# Altium footprint library RCID.PcbLib: 104 footprints (part 7 of 7)
Each footprint in its own frame and in the unit in brackets; x right, y up, seen from the top. Pads: shape width x height; smd on the part's side, far side on the other; paste and mask are expansions set on the pad; w line width, h text height; cw(c..) or ccw(c..) is an arc to the next point about the centre after c.
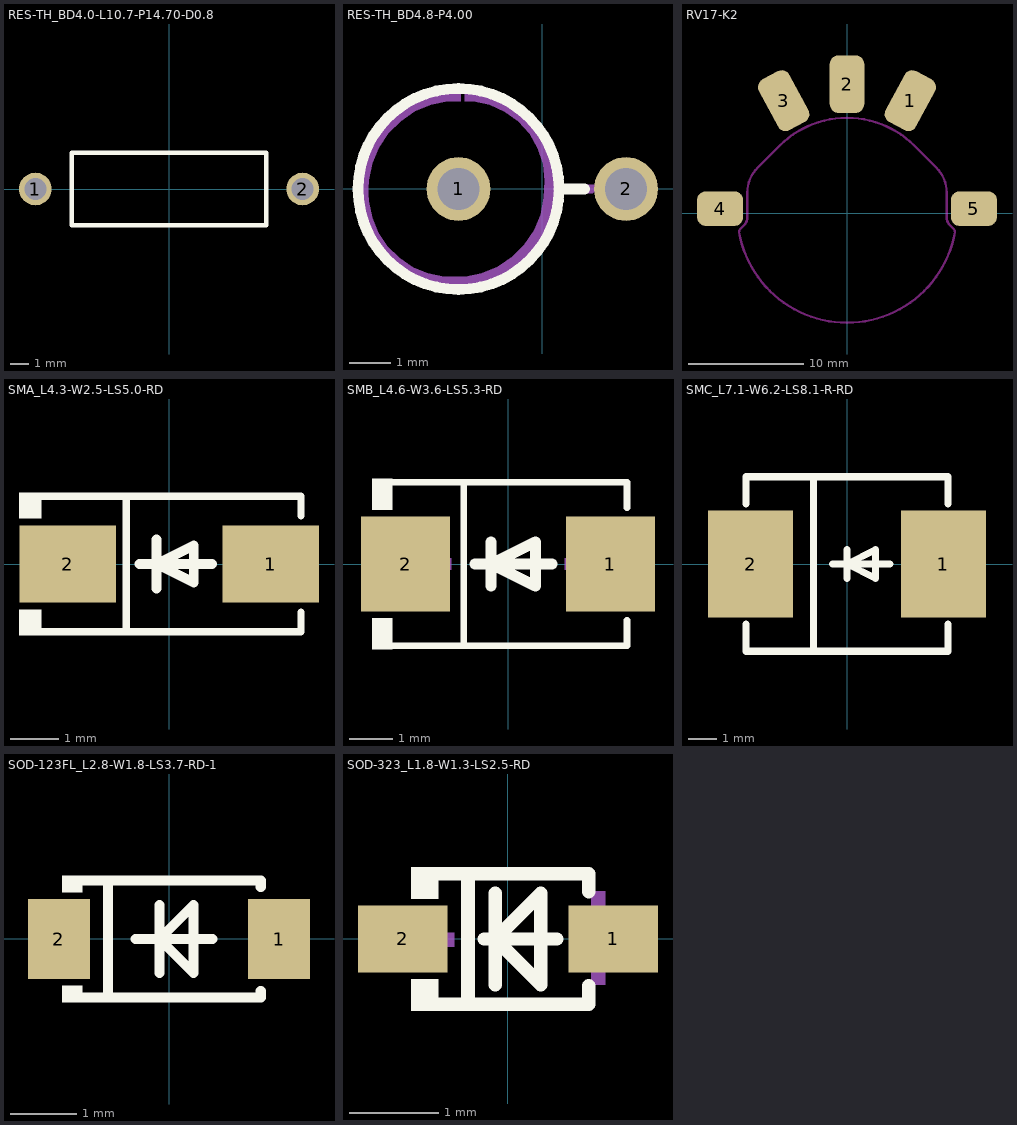
[diagram p6: the footprints below, top view; thin cyan lines are the x and y axes]

## RES-TH_BD4.0-L10.7-P14.70-D0.8 [mm]
pads (2):
  round 1.8 hole 1.2 paste-2539.97 mask+0.051: 1(-7.35,0) 2(7.35,0)
Top Overlay:
  lines w0.254: -5.35,-2 5.35,-2 5.35,2 -5.35,2 -5.35,-2

## RES-TH_BD4.8-P4.00 [mm]
pads (2):
  round 1.524 hole 1 paste-2539.97 mask+0.05: 1(-2,0) 2(2,0)
Top Overlay:
  circle w0.254: c-2,0 r2.4
  lines w0.254: 0.4,0 1.007,0
Mechanical 15:
  region: 0.35,0 0.35,-0.236 0.258,-0.7 0.077,-1.137 -0.186,-1.53 -0.52,-1.864 -0.913,-2.127 -1.35,-2.308 -1.814,-2.4 -2.05,-2.4 -2.277,-2.4 -2.721,-2.312 -3.139,-2.138 -3.516,-1.886 -3.837,-1.566 -4.088,-1.189 -4.262,-0.771 -4.35,-0.327 -4.35,-0.1 -4.35,0 -4.35,0.236 -4.258,0.7 -4.077,1.137 -3.814,1.53 -3.48,1.864 -3.087,2.127 -2.65,2.308 -2.186,2.4 -1.95,2.4 -1.95,2.1 -2.05,2.1 -2.256,2.09 -2.66,2.01 -3.04,1.852 -3.382,1.623 -3.673,1.332 -3.902,0.99 -4.06,0.61 -4.14,0.206 -4.15,0 -4.15,-0.1 -4.14,-0.296 -4.064,-0.681 -3.914,-1.043 -3.696,-1.369 -3.419,-1.646 -3.093,-1.864 -2.731,-2.014 -2.346,-2.09 -2.15,-2.1 -2.05,-2.1 -1.844,-2.09 -1.44,-2.01 -1.06,-1.852 -0.718,-1.623 -0.427,-1.332 -0.198,-0.99 -0.04,-0.61 0.04,-0.206 0.05,0 0.061,0.199 0.019,0.596 -0.105,0.975 -0.305,1.32 -0.572,1.616 -0.895,1.849 -1.26,2.01 -1.651,2.091 -1.85,2.1 -1.85,2.4 -1.633,2.4 -1.208,2.315 -0.808,2.15 -0.448,1.909 -0.141,1.602 0.1,1.242 0.265,0.842 0.35,0.417 0.35,0.2
  region: 1.5,0.1 0.5,0.1 0.5,-0.1 1.2,-0.1

## RV17-K2 [mm]
pads (5):
  rrect50% 5x3 smd rot 62 paste+0 mask+0.051: 1(5.484,9.738)
  rrect50% 3x5 smd paste+0 mask+0.051: 2(0,11.176)
  rrect50% 5x3 smd rot 118 paste+0 mask+0.051: 3(-5.484,9.738)
  rrect50% 4x3 smd paste+0 mask+0.051: 4(-11,0.381) 5(11,0.381)
Keep-Out Layer:
  lines w0.2: -9.356,-1.65 cw(c-8.95,-1.65) -9.237,-1.363 -8.905,-1.031 ccw(c-9.556,-0.381) -8.636,-0.381 -8.636,1.778 cw(c-5.57,1.778) -7.738,3.946 -5.851,5.833 cw(c0,-0.018) 5.851,5.833 7.738,3.946 cw(c5.57,1.778) 8.636,1.778 8.636,-0.381 ccw(c9.556,-0.381) 8.905,-1.031 9.237,-1.363 cw(c8.95,-1.65) 9.356,-1.65 cw(c0,0) -9.356,-1.65

## SMA_L4.3-W2.5-LS5.0-RD [mm]
pads (2):
  rect 2x1.593 smd paste+0 mask+0.051: 1(2.1,0) 2(-2.1,0)
Top Overlay:
  region: -2.65,-1.477 -2.65,-0.949 -3.107,-0.949 -3.107,-1.477
  region: -2.65,1.477 -2.65,0.949 -3.107,0.949 -3.107,1.477
  lines w0.152: -2.726,-1.401 2.726,-1.401 2.726,-1 ; -2.726,1.401 2.726,1.401 2.726,1 ; -0.886,-1.401 -0.886,1.401
  lines w0.203: -0.613,0 0.889,0 ; -0.26,0.508 -0.26,-0.508 -0.26,0 ; -0.26,0 0.508,0.384 0.508,-0.384 -0.26,0
Mechanical 15:
  region: 2.153,-0.663 2.153,0.663 1.954,0.663 1.954,-0.663
  region: 2.451,-0.099 2.451,0.099 1.656,0.099 1.656,-0.099
  region: -2.451,-0.099 -2.451,0.099 -1.656,0.099 -1.656,-0.099

## SMB_L4.6-W3.6-LS5.3-RD [mm]
pads (2):
  rect 2.047x2.192 smd paste+0 mask+0.051: 1(2.361,0) 2(-2.361,0)
Top Overlay:
  region: -2.668,-1.962 -2.668,-1.249 -3.125,-1.249 -3.125,-1.962
  region: -2.668,1.962 -2.668,1.249 -3.125,1.249 -3.125,1.962
  lines w0.152: -2.744,-1.886 2.744,-1.886 2.744,-1.299 ; -2.744,1.886 2.744,1.886 2.744,1.299 ; -1.016,-1.886 -1.016,1.886
  lines w0.254: -0.762,0 1.016,0 ; -0.387,0.508 -0.387,-0.508 -0.387,0 ; -0.387,0 0.629,-0.508 0.629,0.508 -0.387,0
Mechanical 15:
  region: 1.989,-0.905 1.989,0.905 1.717,0.905 1.717,-0.905
  region: 2.396,-0.136 2.396,0.136 1.31,0.136 1.31,-0.136
  region: -2.396,-0.136 -2.396,0.136 -1.31,0.136 -1.31,-0.136

## SMC_L7.1-W6.2-LS8.1-R-RD [mm]
pads (2):
  rect 3.03x3.82 smd paste+0 mask+0.051: 1(3.435,0) 2(-3.435,0)
Top Overlay:
  lines w0.254: -3.6,-2.141 -3.6,-3.11 3.6,-3.11 3.6,-2.141 ; -3.6,2.141 -3.6,3.11 3.6,3.11 3.6,2.141 ; -1.192,-3.11 -1.192,3.11 ; -0.508,0 1.524,0 ; 0,0.508 0,-0.508 0,0 ; 0,0 1.016,0.508 1.016,-0.508 0,0
Mechanical 15:
  region: -4.33,0.254 -2.552,0.254 -2.552,-0.254 -4.33,-0.254
  region: 3.181,-0.895 3.181,0.883 3.689,0.883 3.689,-0.895
  region: 2.54,0.254 4.318,0.254 4.318,-0.254 2.54,-0.254

## SOD-123FL_L2.8-W1.8-LS3.7-RD-1 [mm]
pads (2):
  rect 0.93x1.2 smd paste+0 mask+0.051: 1(1.65,0) 2(-1.65,0)
Top Overlay:
  region: -1.3,0.952 -1.3,0.7 -1.6,0.7 -1.6,0.95
  region: -1.3,-0.953 -1.3,-0.7 -1.6,-0.7 -1.6,-0.95
  lines w0.15: -0.5,0 0.65,0 ; -0.142,-0.508 -0.142,0.508 ; -0.142,-0.254 -0.142,0.254 ; -0.142,0 0.366,0.508 0.366,-0.508 -0.142,0
  lines w0.152: -1.376,-0.876 1.376,-0.876 1.376,-0.78 ; -1.376,0.876 1.376,0.876 1.376,0.78 ; -0.917,-0.876 -0.917,0.876
Mechanical 15:
  region: 1.701,-0.25 1.801,-0.25 1.801,0.25 1.701,0.25
  region: 1.5,0.05 1.5,-0.05 2,-0.05 2,0.05
  region: -1.8,0.05 -1.8,-0.05 -1.3,-0.05 -1.3,0.05

## SOD-323_L1.8-W1.3-LS2.5-RD [mm]
pads (2):
  rect 1x0.75 smd paste+0 mask+0.051: 1(1.173,0) 2(-1.173,0)
Top Overlay:
  region: -0.775,0.802 -0.775,0.45 -1.08,0.45 -1.08,0.802
  region: -0.775,-0.802 -0.775,-0.45 -1.08,-0.45 -1.08,-0.802
  lines w0.15: -0.267,0 0.547,0 ; -0.142,-0.508 -0.142,0.508 ; -0.142,-0.254 -0.142,0.254 ; -0.142,0 0.366,0.508 0.366,-0.508 -0.142,0
  lines w0.152: -0.851,-0.726 0.901,-0.726 0.901,-0.52 ; -0.851,0.726 0.901,0.726 0.901,0.53 ; -0.447,-0.726 -0.447,0.726
Mechanical 15:
  region: -1.225,0.07 -1.225,-0.086 -0.601,-0.086 -0.601,0.07
  region: 1.315,0.09 1.315,-0.066 0.691,-0.066 0.691,0.09
  region: 1.083,0.53 1.083,-0.51 0.927,-0.51 0.927,0.53